# Altium footprint library tilepcb.PCBLIB: 58 footprints (part 2 of 4)
Each footprint in its own frame and in the unit in brackets; x right, y up, seen from the top. Pads: shape width x height; smd on the part's side, far side on the other; paste and mask are expansions set on the pad; w line width, h text height; cw(c..) or ccw(c..) is an arc to the next point about the centre after c.
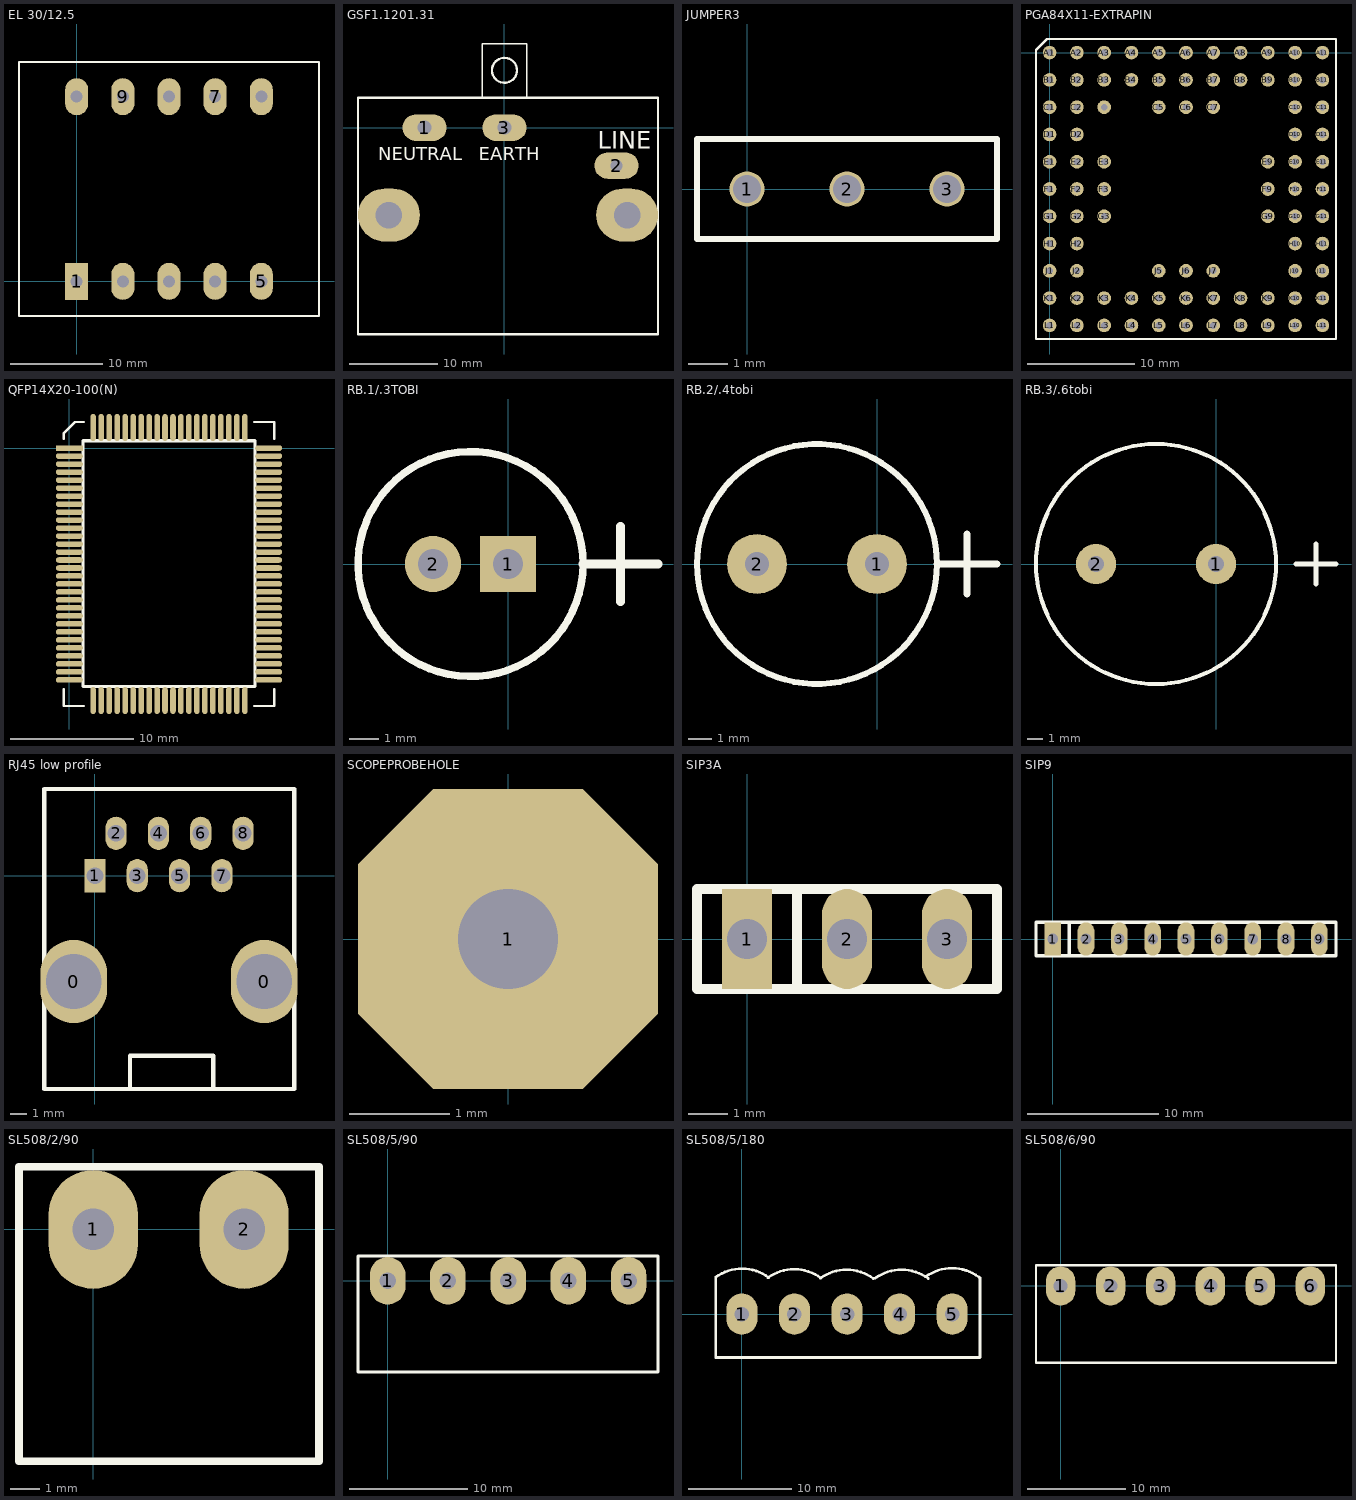
[diagram p1: the footprints below, top view; thin cyan lines are the x and y axes]

## EL 30/12.5 [mm]
pads (10):
  rect 2.5x4 hole 1.3: 1(0,0)
  oval 2.5x4 hole 1.3: 5(20,0) 7(15,20) 9(5,20) ""(0,20) ""(5,0) ""(10,0) ""(10,20) ""(15,0) ""(20,20)
TopOverlay:
  lines w0.254: -6.25,-3.75 -6.25,23.75 26.25,23.75 26.25,-3.75 -6.25,-3.75

## GSF1.1201.31 [mm]
pads (5):
  oval 5x3 hole 1.6: 1(-9.05,0) 3(0,0)
  oval 5x3 hole 1.4: 2(12.7,-4.3)
  oval 7x6 hole 3: ""(-13.1,-9.9) ""(13.9,-9.9)
TopOverlay:
  circle w0.254: c0,6.5 r1.414
  lines w0.152: -2.5,3.5 -2.5,9.5 2.5,9.5 2.5,3.5
  lines w0.254: -16.6,-23.4 -16.6,3.4 17.4,3.4 17.4,-23.4 -16.6,-23.4
  text "LINE" at 10.6,-2.4 h2
  text "NEUTRAL" at -14.3,-3.7 h1.5
  text "EARTH" at -2.9,-3.7 h1.5

## JUMPER3 [mil]
pads (3):
  round 35 hole 28: 1(0,0) 2(100,0) 3(200,0)
TopOverlay:
  lines w6: -50,-50 -50,50 250,50 250,-50 -50,-50

## PGA84X11-EXTRAPIN [mil]
pads (85):
  round 50 hole 25: A1(0,0) A2(100,0) A3(200,0) A4(300,0) A5(400,0) A6(500,0) A7(600,0) A8(700,0) A9(800,0) A10(900,0) A11(1000,0) B1(0,-100) B2(100,-100) B3(200,-100) B4(300,-100) B5(400,-100) B6(500,-100) B7(600,-100) B8(700,-100) B9(800,-100) B10(900,-100) B11(1000,-100) C1(0,-200) C2(100,-200) C5(400,-200) C6(500,-200) C7(600,-200) C10(900,-200) C11(1000,-200) D1(0,-300) D2(100,-300) D10(900,-300) D11(1000,-300) E1(0,-400) E2(100,-400) E3(200,-400) E9(800,-400) E10(900,-400) E11(1000,-400) F1(0,-500) F2(100,-500) F3(200,-500) F9(800,-500) F10(900,-500) F11(1000,-500) G1(0,-600) G2(100,-600) G3(200,-600) G9(800,-600) G10(900,-600) G11(1000,-600) H1(0,-700) H2(100,-700) H10(900,-700) H11(1000,-700) J1(0,-800) J2(100,-800) J5(400,-800) J6(500,-800) J7(600,-800) J10(900,-800) J11(1000,-800) K1(0,-900) K2(100,-900) K3(200,-900) K4(300,-900) K5(400,-900) K6(500,-900) K7(600,-900) K8(700,-900) K9(800,-900) K10(900,-900) K11(1000,-900) L1(0,-1000) L2(100,-1000) L3(200,-1000) L4(300,-1000) L5(400,-1000) L6(500,-1000) L7(600,-1000) L8(700,-1000) L9(800,-1000) L10(900,-1000) L11(1000,-1000) ""(200,-200)
TopOverlay:
  lines w8: -50,-1050 -50,10 -10,50 1050,50 1050,-1050 -50,-1050

## QFP14X20-100(N) [mm]
pads (100):
  rect 2.2x0.45 smd: 1(0,0)
  oval 2.2x0.45 smd: 2(0,-0.65) 3(0,-1.3) 4(0,-1.95) 5(0,-2.6) 6(0,-3.25) 7(0,-3.9) 8(0,-4.55) 9(0,-5.2) 10(0,-5.85) 11(0,-6.5) 12(0,-7.15) 13(0,-7.8) 14(0,-8.45) 15(0,-9.1) 16(0,-9.75) 17(0,-10.4) 18(0,-11.05) 19(0,-11.7) 20(0,-12.35) 21(0,-13) 22(0,-13.65) 23(0,-14.3) 24(0,-14.95) 25(0,-15.6) 26(0,-16.25) 27(0,-16.9) 28(0,-17.55) 29(0,-18.2) 30(0,-18.85) 51(16.21,-18.85) 52(16.21,-18.2) 53(16.21,-17.55) 54(16.21,-16.9) 55(16.21,-16.25) 56(16.21,-15.6) 57(16.21,-14.95) 58(16.21,-14.3) 59(16.21,-13.65) 60(16.21,-13) 61(16.21,-12.35) 62(16.21,-11.7) 63(16.21,-11.05) 64(16.21,-10.4) 65(16.21,-9.75) 66(16.21,-9.1) 67(16.21,-8.45) 68(16.21,-7.8) 69(16.21,-7.15) 70(16.21,-6.5) 71(16.21,-5.85) 72(16.21,-5.2) 73(16.21,-4.55) 74(16.21,-3.9) 75(16.21,-3.25) 76(16.21,-2.6) 77(16.21,-1.95) 78(16.21,-1.3) 79(16.21,-0.65) 80(16.21,0)
  oval 0.45x2.2 smd: 31(1.93,-20.53) 32(2.58,-20.53) 33(3.23,-20.53) 34(3.88,-20.53) 35(4.53,-20.53) 36(5.18,-20.53) 37(5.83,-20.53) 38(6.48,-20.53) 39(7.13,-20.53) 40(7.78,-20.53) 41(8.43,-20.53) 42(9.08,-20.53) 43(9.73,-20.53) 44(10.38,-20.53) 45(11.03,-20.53) 46(11.68,-20.53) 47(12.33,-20.53) 48(12.98,-20.53) 49(13.63,-20.53) 50(14.28,-20.53) 81(14.28,1.68) 82(13.63,1.68) 83(12.98,1.68) 84(12.33,1.68) 85(11.68,1.68) 86(11.03,1.68) 87(10.38,1.68) 88(9.73,1.68) 89(9.08,1.68) 90(8.43,1.68) 91(7.78,1.68) 92(7.13,1.68) 93(6.48,1.68) 94(5.83,1.68) 95(5.18,1.68) 96(4.53,1.68) 97(3.88,1.68) 98(3.23,1.68) 99(2.58,1.68) 100(1.93,1.68)
TopOverlay:
  lines w0.2: -0.45,-19.6 -0.45,-20.98 1.18,-20.98 ; -0.45,0.75 -0.45,1.23 0.45,2.13 1.18,2.13 ; 15.03,-20.98 16.66,-20.98 16.66,-19.6 ; 15.03,2.13 16.66,2.13 16.66,0.75
  lines w0.254: 1.1,-19.4 15.1,-19.4 15.1,0.6 1.1,0.6 1.1,-19.4

## RB.1/.3TOBI [mm]
pads (2):
  rect 1.905x1.905 hole 1: 1(0,0)
  round 1.905 hole 1: 2(-2.54,0)
TopOverlay:
  circle w0.254: c-1.27,0 r3.81
  lines w0.305: 2.54,0 5.08,0 ; 3.81,-1.27 3.81,1.27

## RB.2/.4tobi [mm]
pads (2):
  round 2.54 hole 1: 1(0,0) 2(-5.08,0)
TopOverlay:
  circle w0.254: c-2.54,0 r5.08
  lines w0.305: 2.54,0 5.08,0 ; 3.81,-1.27 3.81,1.27

## RB.3/.6tobi [mm]
pads (2):
  round 2.54 hole 1: 1(0,0) 2(-7.62,0)
TopOverlay:
  circle w0.254: c-3.81,0 r7.62
  lines w0.305: 5.08,0 7.62,0 ; 6.35,-1.27 6.35,1.27

## RJ45 low profile [mm]
pads (10):
  oval 4x5 hole 3.3: 0(-1.27,-6.35) 0(10.16,-6.35)
  rect 1.27x2 hole 1: 1(0,0)
  oval 1.27x2 hole 1: 2(1.27,2.54) 3(2.54,0) 4(3.81,2.54) 5(5.08,0) 6(6.35,2.54) 7(7.62,0) 8(8.89,2.54)
TopOverlay:
  lines w0.254: 2.1,-12.8 2.1,-10.8 7.1,-10.8 7.1,-12.8 ; -3.035,-12.8 -3.035,5.2 11.965,5.2 11.965,-12.8 -3.035,-12.8

## SCOPEPROBEHOLE [mm]
pads (1):
  oct 3x3 hole 1: 1(0,0)

## SIP3A [mil]
pads (3):
  rect 50x100 hole 40: 1(0,0)
  oval 50x100 hole 40: 2(100,0) 3(200,0)
TopOverlay:
  lines w10: 50,-50 50,50 ; -50,-50 -50,50 250,50 250,-50 -50,-50

## SIP9 [mil]
pads (9):
  rect 50x100 hole 32: 1(0,0)
  oval 50x100 hole 32: 2(100,0) 3(200,0) 4(300,0) 5(400,0) 6(500,0) 7(600,0) 8(700,0) 9(800,0)
TopOverlay:
  lines w10: 50,-50 50,50 ; -50,-50 850,-50 850,50 -50,50 -50,-50

## SL508/2/90 [mm]
pads (2):
  oval 3x4 hole 1.4: 1(0,0) 2(5.08,0)
TopOverlay:
  lines w0.254: -2.5,2.1 7.6,2.1 7.6,-7.8 -2.5,-7.8 -2.5,2.1

## SL508/5/90 [mm]
pads (5):
  oval 3x4 hole 1.4: 1(0,0) 2(5.08,0) 3(10.16,0) 4(15.24,0) 5(20.32,0)
TopOverlay:
  lines w0.254: -2.5,2.1 22.8,2.1 22.8,-7.7 -2.5,-7.7 -2.5,2.1

## SL508/5/180 [mm]
pads (5):
  oval 3x4 hole 1.4: 1(0,0) 2(5.08,0) 3(10.16,0) 4(15.24,0) 5(20.32,0)
TopOverlay:
  lines w0.254: 2.5,3.5 cw(c5.056,-0.02) 7.642,3.478 ; 2.602,3.534 ccw(c0.016,0.036) -2.54,3.556 -2.54,-4.2 23,-4.2 ; 7.564,3.452 cw(c10.12,-0.069) 12.706,3.43 ; 12.864,3.452 cw(c15.42,-0.069) 18.006,3.43 ; 17.74,3.6 cw(c20.296,0.08) 22.882,3.578 ; 23,-4.12 23,3.5

## SL508/6/90 [mm]
pads (6):
  oval 3x4 hole 1.4: 1(0,0) 2(5.08,0) 3(10.16,0) 4(15.24,0) 5(20.32,0) 6(25.4,0)
TopOverlay:
  lines w0.254: -2.5,2.1 27.98,2.1 ; -2.5,2.1 -2.5,-7.8 27.9,-7.8 ; 28,-7.8 28,2.1